# EAGLE library part OPAMP,COMP (library QuantumOptics)
OpAmp with compensation pin, Analog Device's OP97 but without the null pins.
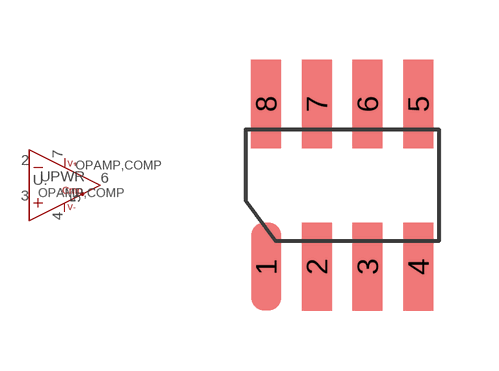
[diagram p218: symbol with the pads of SOIC-8; footprint SOIC-8]

Designator prefix U; gates .=OPAMP,COMP PWR=PWR+-

## OPAMP,COMP-SOIC8  [SOIC-8]
2  .:-IN  in
3  .:+IN  in
4  PWR:V-
5  .:COMP  in
6  .:OUT  out
7  PWR:V++

## Footprint SOIC-8 (pad centres in mm)
SOIC-8 (AKA SO-8), pads on 0.050" grid.
smd 0.75 x 2.2: 1 -1.905,-2.032; 2 -0.635,-2.032; 3 0.635,-2.032; 4 1.905,-2.032; 5 1.905,2.032; 6 0.635,2.032; 7 -0.635,2.032; 8 -1.905,2.032